# EAGLE library part 418311270812 (library EAGLE-TACT_SWITCHES-rev17c)
WS-PT 2.54 mm piano type compact SMD Dip Switch with raised actuator, 12 Pole
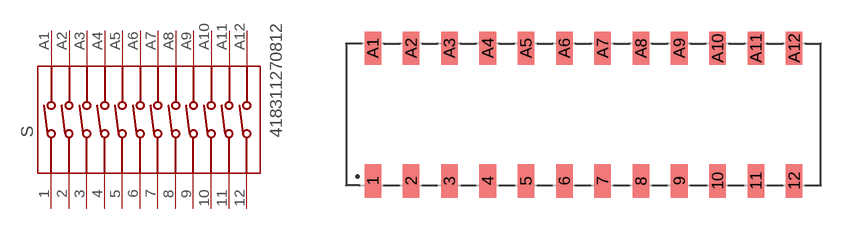
[diagram p76: symbol with the pads of 418311270812; footprint 418311270812]

Designator prefix S

## 418311270812  [418311270812]
1  1  pas
2  2  pas
3  3  pas
4  4  pas
5  5  pas
6  6  pas
7  7  pas
8  8  pas
9  9  hiz
10  10  pas
11  11  pas
12  12  pas
A1  A1  pas
A2  A2  pas
A3  A3  pas
A4  A4  pas
A5  A5  pas
A6  A6  pas
A7  A7  pas
A8  A8  pas
A9  A9  pas
A10  A10  pas
A11  A11  pas
A12  A12  pas

## Footprint 418311270812 (pad centres in mm)
WS-PT 2.54 mm piano type compact SMD Dip Switch with raised actuator, 12 Pole
smd 1.1 x 2.2: 1 -13.97,-4.4; 2 -11.43,-4.4; 3 -8.89,-4.4; 4 -6.35,-4.4; 5 -3.81,-4.4; 6 -1.27,-4.4; 7 1.27,-4.4; 8 3.81,-4.4; 9 6.35,-4.4; 10 8.89,-4.4; 11 11.43,-4.4; 12 13.97,-4.4; A1 -13.97,4.4; A2 -11.43,4.4; A3 -8.89,4.4; A4 -6.35,4.4; A5 -3.81,4.4; A6 -1.27,4.4; A7 1.27,4.4; A8 3.81,4.4; A9 6.35,4.4; A10 8.89,4.4; A11 11.43,4.4; A12 13.97,4.4